# Altium schematic symbol library Transformers.SchLib: 1 symbol
Pins are listed as number, name and electrical type; pins without a type are passive.

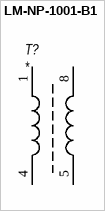
[diagram p0: symbol LM-NP-1001-B1]

## LM-NP-1001-B1
designator T?
pins: 1, 4, 5, 8